# Altium footprint library PDFN5X8-8L.PcbLib: 1 footprints
Each footprint in its own frame and in the unit in brackets; x right, y up, seen from the top. Pads: shape width x height; smd on the part's side, far side on the other; paste and mask are expansions set on the pad; w line width, h text height; cw(c..) or ccw(c..) is an arc to the next point about the centre after c.
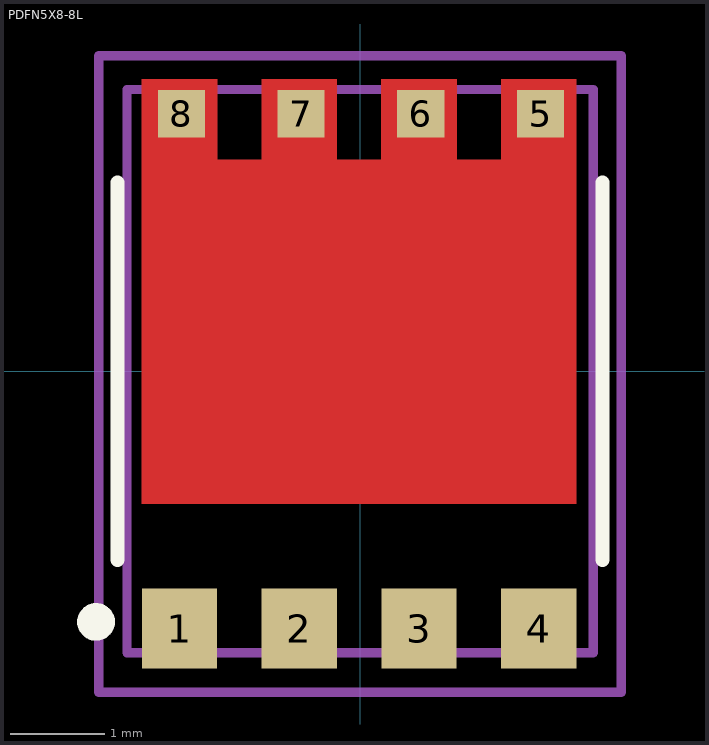
[diagram p0: the footprint, top view; thin cyan lines are the x and y axes]

## PDFN5X8-8L [mm] "Pitch 1.27mm Body5x6mm High0.9mm"
height 0.9
pads (8):
  rect 0.8x0.85 smd: 1(-1.914,-2.73) 2(-0.644,-2.73) 3(0.626,-2.73) 4(1.896,-2.73)
  rect 0.5x0.5 smd: 5(1.914,2.731) 6(0.644,2.731) 7(-0.626,2.731) 8(-1.896,2.731)
Top Layer:
  region: 2.295,3.095 1.495,3.095 1.495,2.245 1.025,2.245 1.025,3.095 0.225,3.095 0.225,2.245 -0.245,2.245 -0.245,3.095 -1.045,3.095 -1.045,2.245 -1.515,2.245 -1.515,3.095 -2.315,3.095 -2.315,-1.405 2.295,-1.405
Top Overlay:
  circle w0.2: c-2.8,-2.66 r0.1
  lines w0.152: -2.572,-2 -2.572,2 ; 2.572,-2 2.572,2
Mechanical 13:
  lines w0.1: -2.472,-2.987 2.472,-2.987 2.472,2.987 -2.472,2.987 -2.472,-2.987
Mechanical 15:
  lines w0.1: 2.756,3.344 -2.772,3.344 -2.772,-3.405 2.772,-3.405 2.772,3.344
3D body: height 0.9, standoff 0, extent -2.472,-2.987 2.473,2.988